# Altium schematic symbol library ERJ-3GEYJ3R0V.SchLib: 1 symbol
Pins are listed as number, name and electrical type; pins without a type are passive.

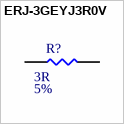
[diagram p0: symbol ERJ-3GEYJ3R0V]

## ERJ-3GEYJ3R0V
designator R?  Tolerance: 5%  Resistance: 3R  (hidden comment: ERJ-3GEYJ3R0V)
Thick Film Resistors - SMD 0603 3.0ohms 5% Tol AEC-Q200; Mfr: Panasonic; Mfr #: ERJ-3GEYJ3R0V; Supplier: Mouser; Qualifications: AEC-Q200; Footprint: 0603; ComponentLink1Description: Datasheet; ComponentLink1URL: https://www.mouser.ca/datasheet/2/315/AOA0000C301-1488782.pdf
footprint RES0603 (Generic 0603)
pins: 1, 2